# Altium footprint library Hello.PcbLib: 234 footprints (part 10 of 15)
Each footprint in its own frame and in the unit in brackets; x right, y up, seen from the top. Pads: shape width x height; smd on the part's side, far side on the other; paste and mask are expansions set on the pad; w line width, h text height; cw(c..) or ccw(c..) is an arc to the next point about the centre after c.
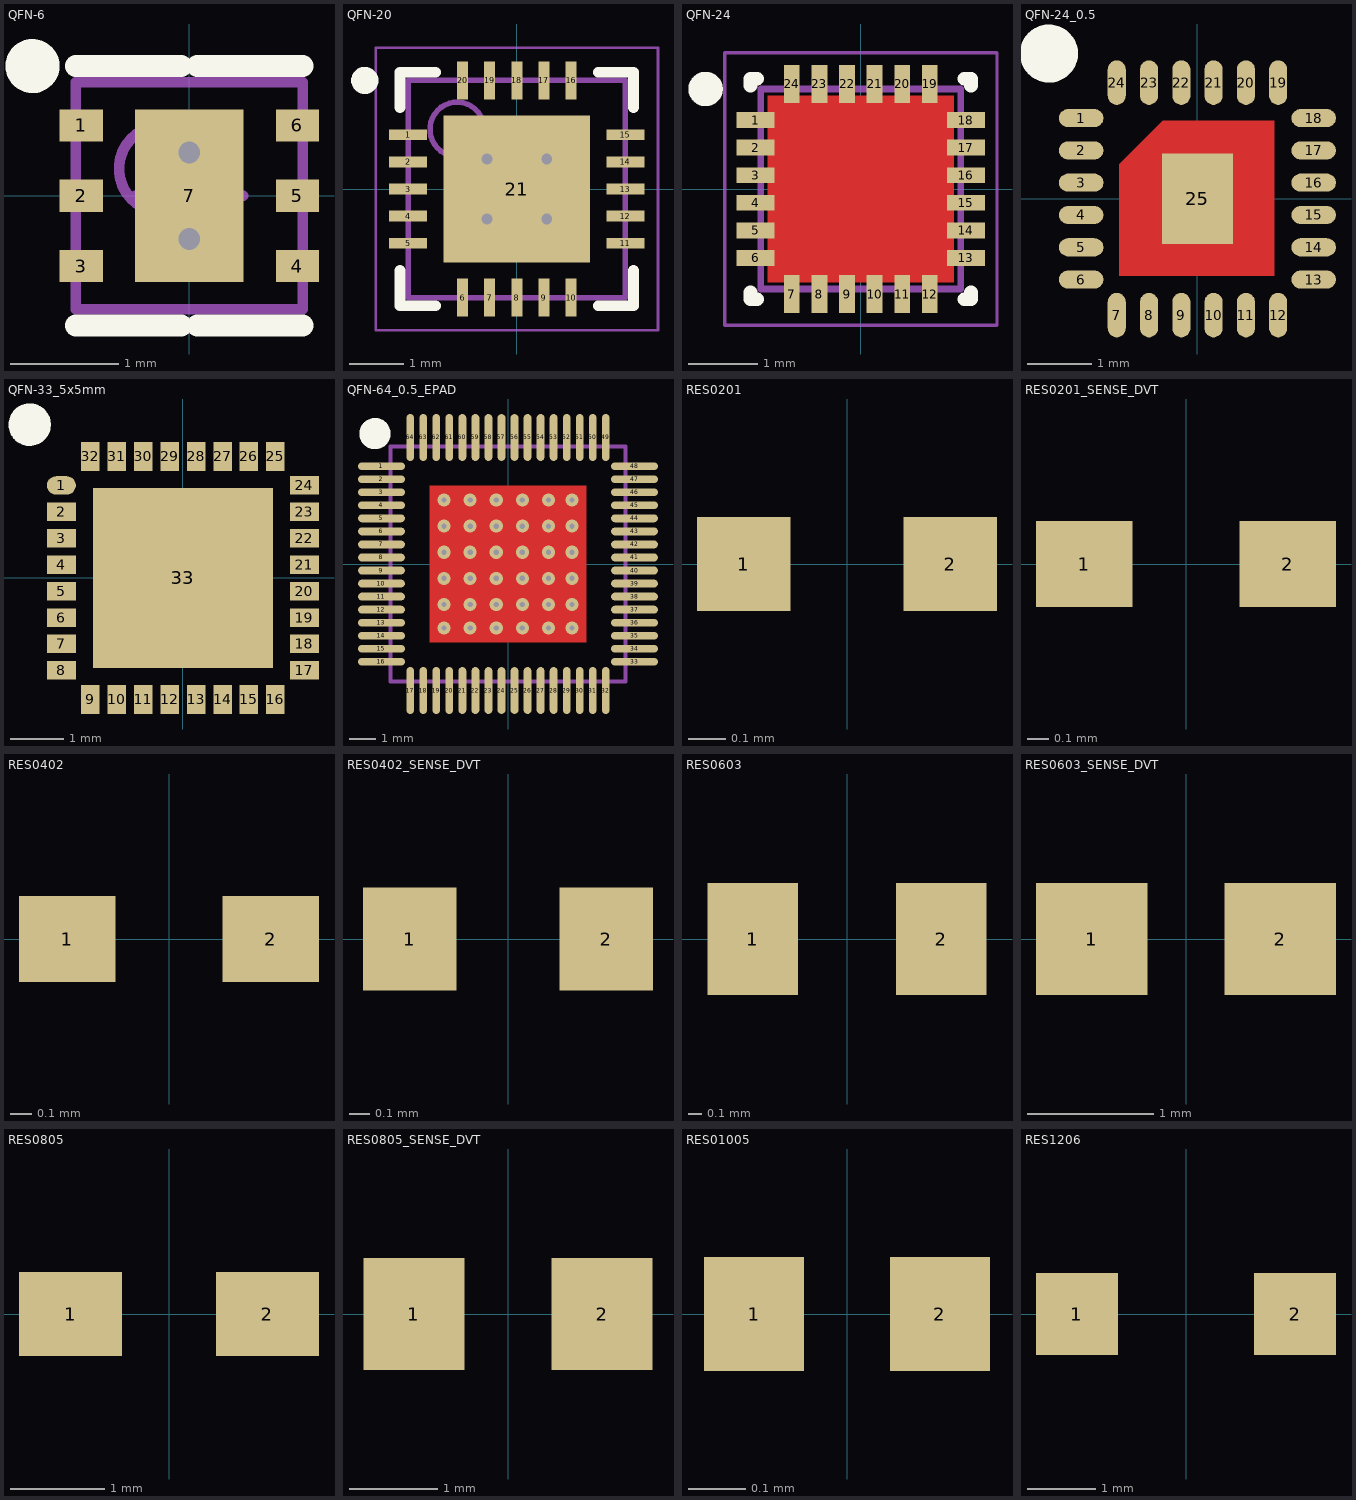
[diagram p9: the footprints below, top view; thin cyan lines are the x and y axes]

## QFN-6 [mm] "6-pin QFN w/ thermal pad TI TPC61160 2.10 x 2.10 x 0.80mm"
height 0.8
pads (7):
  rect 0.4x0.3 smd: 1(-1,0.65) 2(-1,0) 3(-1,-0.65) 4(1,-0.65) 5(1,0) 6(1,0.65)
  rect 1x1.6 smd: 7(0,0)
via 0,-0.4 diameter 0.5 hole 0.2
via 0,0.4 diameter 0.5 hole 0.2
Top Overlay:
  circle w0.25: c-1.45,1.2 r0.125
  lines w0.2: -1.05,-1.2 -0.075,-1.2 ; -1.05,1.2 -0.075,1.2 ; 0.075,-1.2 1.05,-1.2 ; 0.075,1.2 1.05,1.2
Mechanical 13:
  circle w0.1: c-0.25,0.25 r0.4
  lines w0.1: -1.05,-1.05 -1.05,1.05 1.05,1.05 1.05,-1.05 -1.05,-1.05
Mechanical 15:
  lines w0.1: -0.5,0 0.5,0 ; 0,-0.5 0,0.5
3D body: height 0.8, standoff 0, extent -1.05,-1.05 1.05,1.05

## QFN-20 [mm] "QFN, 20-Leads, Body 4.00x4.00mm, Pitch 0.50mm, Thermal Pad 2.70x2.70mm, IPC Medium Density"
height 1
pads (21):
  rect 0.7x0.2 smd: 1(-2,1) 2(-2,0.5) 3(-2,0) 4(-2,-0.5) 5(-2,-1) 11(2,-1) 12(2,-0.5) 13(2,0) 14(2,0.5) 15(2,1)
  rect 0.2x0.7 smd: 6(-1,-2) 7(-0.5,-2) 8(0,-2) 9(0.5,-2) 10(1,-2) 16(1,2) 17(0.5,2) 18(0,2) 19(-0.5,2) 20(-1,2)
  rect 2.7x2.7 smd: 21(0,0)
via 0.55,-0.55 diameter 0.5 hole 0.2
via -0.55,-0.55 diameter 0.5 hole 0.2
via 0.55,0.55 diameter 0.5 hole 0.2
via -0.55,0.55 diameter 0.5 hole 0.2
Top Overlay:
  circle w0.25: c-2.8,2 r0.125
  lines w0.2: -2.15,-1.5 -2.15,-2.15 -1.5,-2.15 ; -2.15,1.5 -2.15,2.15 -1.5,2.15 ; 1.5,-2.15 2.15,-2.15 2.15,-1.5 ; 1.5,2.15 2.15,2.15 2.15,1.5
Mechanical 13:
  circle w0.1: c-1.1,1.1 r0.5
  lines w0.1: -2,-2 2,-2 2,2 -2,2 -2,-2
Mechanical 15:
  lines w0.05: -2.6,-2.6 2.6,-2.6 2.6,2.6 -2.6,2.6 -2.6,-2.6
  lines w0.1: -0.5,0 0.5,0 ; 0,-0.5 0,0.5
3D body: height 1, standoff 0, extent -2,-2 2,2

## QFN-24 [mm]
height 0.95
pads (24):
  rect 0.55x0.229 smd: 1(-1.525,1) 2(-1.525,0.6) 3(-1.525,0.2) 4(-1.525,-0.2) 5(-1.525,-0.6) 6(-1.525,-1) 13(1.525,-1) 14(1.525,-0.6) 15(1.525,-0.2) 16(1.525,0.2) 17(1.525,0.6) 18(1.525,1)
  rect 0.229x0.55 smd: 7(-1,-1.525) 8(-0.6,-1.525) 9(-0.2,-1.525) 10(0.2,-1.525) 11(0.6,-1.525) 12(1,-1.525) 19(1,1.525) 20(0.6,1.525) 21(0.2,1.525) 22(-0.2,1.525) 23(-0.6,1.525) 24(-1,1.525)
Top Layer:
  pour cut-out: -1.35,1.35 -1.35,-1.35 1.35,-1.35 1.35,1.35
Top Overlay:
  circle w0.25: c-2.25,1.45 r0.125
  lines w0.2: -1.6,-1.5 -1.6,-1.6 -1.5,-1.6 ; -1.6,1.5 -1.6,1.6 -1.5,1.6 ; 1.5,-1.6 1.6,-1.6 1.6,-1.5 ; 1.5,1.6 1.6,1.6 1.6,1.5
Mechanical 13:
  circle w0.1: c-0.55,0.55 r0.5
  lines w0.1: -1.45,-1.45 1.45,-1.45 1.45,1.45 -1.45,1.45 -1.45,-1.45
Mechanical 15:
  lines w0.05: -1.975,-1.975 1.975,-1.975 1.975,1.975 -1.975,1.975 -1.975,-1.975
  lines w0.1: -0.5,0 0.5,0 ; 0,-0.5 0,0.5
3D body: height 0.95, standoff 0.05, extent -1.45,-1.45 1.45,1.45

## QFN-24_0.5 [mm] "QFN-24 with a 0.5mm pitch"
height 1
pads (25):
  oval 0.69x0.28 smd: 1(-1.8,1.25) 2(-1.8,0.75) 3(-1.8,0.25) 4(-1.8,-0.25) 5(-1.8,-0.75) 6(-1.8,-1.25) 13(1.8,-1.25) 14(1.8,-0.75) 15(1.8,-0.25) 16(1.8,0.25) 17(1.8,0.75) 18(1.8,1.25)
  oval 0.28x0.69 smd: 7(-1.25,-1.8) 8(-0.75,-1.8) 9(-0.25,-1.8) 10(0.25,-1.8) 11(0.75,-1.8) 12(1.25,-1.8) 19(1.25,1.8) 20(0.75,1.8) 21(0.25,1.8) 22(-0.25,1.8) 23(-0.75,1.8) 24(-1.25,1.8)
  rect 1.1x1.4 smd: 25(0,0)
Top Layer:
  region: 1.188,1.212 -0.537,1.212 -1.212,0.537 -1.212,-1.188 1.188,-1.188
Top Overlay:
  circle w0.5: c-2.3,2.25 r0.2
3D body: height 0.85, standoff 0.04, extent -2,-2 2,2

## QFN-33_5x5mm [mm]
height 0.8
pads (33):
  oval 0.55x0.35 smd: 1(-2.3,1.75)
  rect 0.55x0.35 smd: 2(-2.3,1.25) 3(-2.3,0.75) 4(-2.3,0.25) 5(-2.3,-0.25) 6(-2.3,-0.75) 7(-2.3,-1.25) 8(-2.3,-1.75) 17(2.3,-1.75) 18(2.3,-1.25) 19(2.3,-0.75) 20(2.3,-0.25) 21(2.3,0.25) 22(2.3,0.75) 23(2.3,1.25) 24(2.3,1.75)
  rect 0.35x0.55 smd: 9(-1.75,-2.3) 10(-1.25,-2.3) 11(-0.75,-2.3) 12(-0.25,-2.3) 13(0.25,-2.3) 14(0.75,-2.3) 15(1.25,-2.3) 16(1.75,-2.3) 25(1.75,2.3) 26(1.25,2.3) 27(0.75,2.3) 28(0.25,2.3) 29(-0.25,2.3) 30(-0.75,2.3) 31(-1.25,2.3) 32(-1.75,2.3)
  rect 3.4x3.4 smd paste-0.2: 33(0,0)
Top Overlay:
  circle w0.4: c-2.9,2.9 r0.202
3D body: height 0.8, standoff 0.05, extent -2.55,-2.55 2.55,2.575

## QFN-64_0.5_EPAD [mm] "QFN 64 pins 0.5 mm pitch"
height 0.9
pads (64):
  oval 1.8x0.3 smd: 1(-4.85,3.75) 2(-4.85,3.25) 3(-4.85,2.75) 4(-4.85,2.25) 5(-4.85,1.75) 6(-4.85,1.25) 7(-4.85,0.75) 8(-4.85,0.25) 9(-4.85,-0.25) 10(-4.85,-0.75) 11(-4.85,-1.25) 12(-4.85,-1.75) 13(-4.85,-2.25) 14(-4.85,-2.75) 15(-4.85,-3.25) 16(-4.85,-3.75) 33(4.85,-3.75) 34(4.85,-3.25) 35(4.85,-2.75) 36(4.85,-2.25) 37(4.85,-1.75) 38(4.85,-1.25) 39(4.85,-0.75) 40(4.85,-0.25) 41(4.85,0.25) 42(4.85,0.75) 43(4.85,1.25) 44(4.85,1.75) 45(4.85,2.25) 46(4.85,2.75) 47(4.85,3.25) 48(4.85,3.75)
  oval 0.3x1.8 smd: 17(-3.75,-4.85) 18(-3.25,-4.85) 19(-2.75,-4.85) 20(-2.25,-4.85) 21(-1.75,-4.85) 22(-1.25,-4.85) 23(-0.75,-4.85) 24(-0.25,-4.85) 25(0.25,-4.85) 26(0.75,-4.85) 27(1.25,-4.85) 28(1.75,-4.85) 29(2.25,-4.85) 30(2.75,-4.85) 31(3.25,-4.85) 32(3.75,-4.85) 49(3.75,4.85) 50(3.25,4.85) 51(2.75,4.85) 52(2.25,4.85) 53(1.75,4.85) 54(1.25,4.85) 55(0.75,4.85) 56(0.25,4.85) 57(-0.25,4.85) 58(-0.75,4.85) 59(-1.25,4.85) 60(-1.75,4.85) 61(-2.25,4.85) 62(-2.75,4.85) 63(-3.25,4.85) 64(-3.75,4.85)
via -1.45,2.45 diameter 0.5 hole 0.2
via 0.55,2.45 diameter 0.5 hole 0.2
via 1.55,2.45 diameter 0.5 hole 0.2
via -2.45,2.45 diameter 0.5 hole 0.2
via -2.45,-1.55 diameter 0.5 hole 0.2
via -2.45,-0.55 diameter 0.5 hole 0.2
via -2.45,0.45 diameter 0.5 hole 0.2
via -2.45,1.45 diameter 0.5 hole 0.2
via 2.45,2.45 diameter 0.5 hole 0.2
via 2.45,-1.55 diameter 0.5 hole 0.2
via 2.45,-0.55 diameter 0.5 hole 0.2
via 2.45,0.45 diameter 0.5 hole 0.2
via 2.45,1.45 diameter 0.5 hole 0.2
via 2.45,-2.45 diameter 0.5 hole 0.2
via -2.45,-2.45 diameter 0.5 hole 0.2
via 1.55,-2.45 diameter 0.5 hole 0.2
via 0.55,-2.45 diameter 0.5 hole 0.2
via -0.45,-2.45 diameter 0.5 hole 0.2
via -1.45,-2.45 diameter 0.5 hole 0.2
via -0.45,2.45 diameter 0.5 hole 0.2
via -0.45,1.45 diameter 0.5 hole 0.2
via 1.55,1.45 diameter 0.5 hole 0.2
via 0.55,1.45 diameter 0.5 hole 0.2
via -1.45,1.45 diameter 0.5 hole 0.2
via -0.45,0.45 diameter 0.5 hole 0.2
via 1.55,0.45 diameter 0.5 hole 0.2
via 0.55,0.45 diameter 0.5 hole 0.2
via -1.45,0.45 diameter 0.5 hole 0.2
via -0.45,-0.55 diameter 0.5 hole 0.2
via 1.55,-0.55 diameter 0.5 hole 0.2
via 0.55,-0.55 diameter 0.5 hole 0.2
via -1.45,-0.55 diameter 0.5 hole 0.2
via -0.45,-1.55 diameter 0.5 hole 0.2
via 1.55,-1.55 diameter 0.5 hole 0.2
via 0.55,-1.55 diameter 0.5 hole 0.2
via -1.45,-1.55 diameter 0.5 hole 0.2
Top Layer:
  rectangle: -3,-3 3,3
Top Overlay:
  circle w0.6: c-5.1,5 r0.3
Mechanical 1:
  lines w0.15: -4.5,-4.5 4.5,-4.5 4.5,4.5 -4.5,4.5 -4.5,-4.5
Mechanical 15:
  lines w0.1: -0.5,0 0.5,0 ; 0,-0.5 0,0.5
3D body: height 1.2, standoff 0, extent -4.5,-4.5 4.5,4.5

## RES0201 [mm] "Chip resistor 0201 high density"
height 0.5
pads (2):
  rect 0.25x0.25 smd: 1(-0.275,0) 2(0.275,0)
3D body: height 0.5, standoff 0, extent -0.353,-0.126 0.349,0.125

## RES0201_SENSE_DVT [mm] "Chip resistor 0201"
height 0.5
pads (2):
  rect 0.45x0.4 smd: 1(-0.475,0) 2(0.475,0)
3D body: height 0.5, standoff 0, extent -0.614,-0.199 0.601,0.2

## RES0402 [mm] "Chip resistor 0402 high density"
height 0.5
pads (2):
  rect 0.45x0.4 smd: 1(-0.475,0) 2(0.475,0)
3D body: height 0.5, standoff 0, extent -0.614,-0.199 0.601,0.2

## RES0402_SENSE_DVT [mil] "Chip resistor 0402"
height 19.68
pads (2):
  rect 18x20 smd: 1(-19,0) 2(19,0)
3D body: height 19.68, standoff 0, extent -23.91,-7.85 23.92,7.86

## RES0603 [mm] "Chip resistor 0603 high density"
height 0.5
pads (2):
  rect 0.65x0.8 smd: 1(-0.675,0) 2(0.675,0)
3D body: height 0.5, standoff 0, extent -0.855,-0.4 0.837,0.396

## RES0603_SENSE_DVT [mil] "Chip resistor 0603"
height 19.68
pads (2):
  rect 35x35 smd: 1(-29.5,0) 2(29.5,0)
3D body: height 19.68, standoff 0, extent -33.3,-15.66 33.31,15.67

## RES0805 [mm] "Chip resistor 0805 high density"
height 0.5
pads (2):
  rect 1.1x0.9 smd: 1(-1.05,0) 2(1.05,0)
3D body: height 0.5, standoff 0, extent -1.396,-0.445 1.364,0.447

## RES0805_SENSE_DVT [mil] "Chip resistor 0805"
height 19.68
pads (2):
  rect 45x50 smd: 1(-42,0) 2(42,0)
3D body: height 19.68, standoff 0, extent -54.96,-17.52 53.7,17.6

## RES01005 [mm] "Chip resistor 01005 high density"
height 0.5
pads (2):
  rect 0.175x0.2 smd: 1(-0.162,0) 2(0.162,0)
3D body: height 0.5, standoff 0, extent -0.215,-0.1 0.213,0.099

## RES1206 [mm] "Chip resistor 1206 high density"
height 0.5
pads (2):
  rect 1.2x1.2 smd: 1(-1.6,0) 2(1.6,0)
3D body: height 0.5, standoff 0, extent -2.002,-0.597 1.87,0.602